# Altium footprint library SW_SLIDE_SPDT_VERT_TH.PcbLib: 1 footprints
Each footprint in its own frame and in the unit in brackets; x right, y up, seen from the top. Pads: shape width x height; smd on the part's side, far side on the other; paste and mask are expansions set on the pad; w line width, h text height; cw(c..) or ccw(c..) is an arc to the next point about the centre after c.
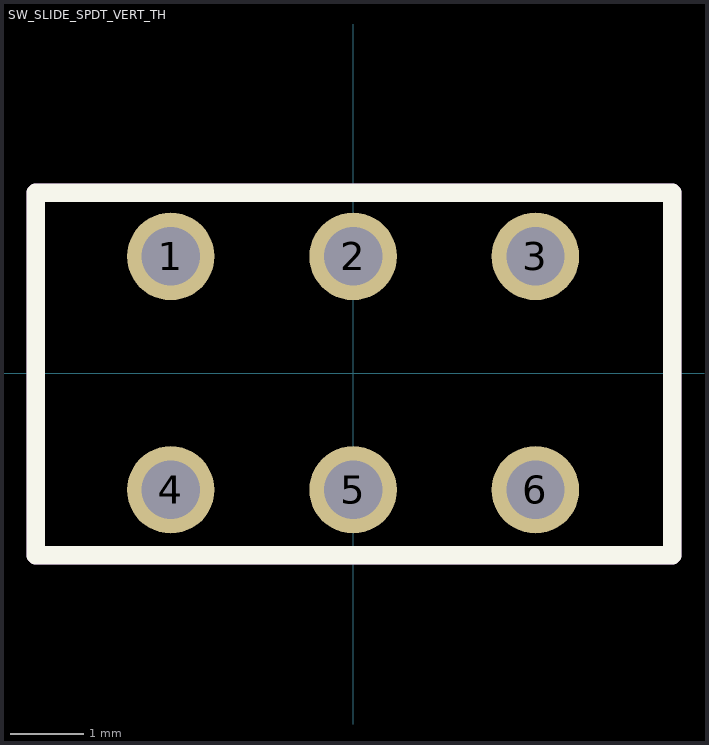
[diagram p0: the footprint, top view; thin cyan lines are the x and y axes]

## SW_SLIDE_SPDT_VERT_TH [mm]
pads (6):
  round 1.2 hole 0.8: 1(-2.5,1.6) 2(0,1.6) 3(2.5,1.6) 4(-2.5,-1.6) 5(0,-1.6) 6(2.5,-1.6)
Top Overlay:
  lines w0.254: -4.35,-2.5 -4.35,2.475 4.375,2.475 4.375,-2.5 -4.35,-2.5
Mechanical 1:
  lines w0.254: -4.35,-2.5 4.375,-2.5 4.375,2.475 -4.35,2.475 -4.35,-2.5
  text ".Designator" at -1.45,-0.232 h0.76
3D body "SW_SLIDE_SPDT_VERT_TH.STEP": height 7.91, standoff -2.99, extent -4.25,-1.775 4.25,1.725